# Altium footprint library Package_LCC.PcbLib: 25 footprints (part 2 of 2)
Each footprint in its own frame and in the unit in brackets; x right, y up, seen from the top. Pads: shape width x height; smd on the part's side, far side on the other; paste and mask are expansions set on the pad; w line width, h text height; cw(c..) or ccw(c..) is an arc to the next point about the centre after c.
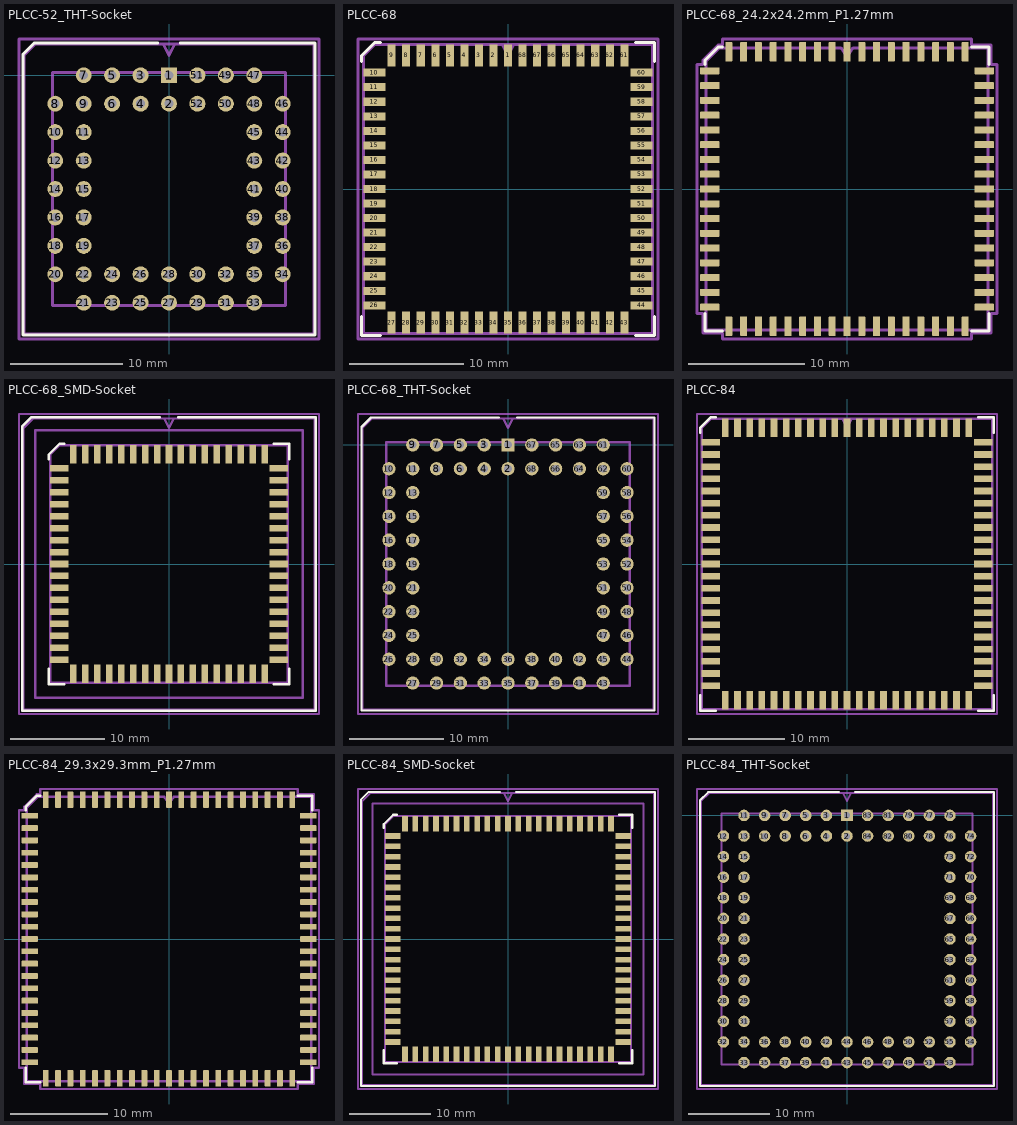
[diagram p1: the footprints below, top view; thin cyan lines are the x and y axes]

## PLCC-52_THT-Socket [mil]
pads (52):
  rect 56x56 hole 31.5: 1(0,0)
  round 56 hole 31.5: 2(0,-100) 3(-100,0) 4(-100,-100) 5(-200,0) 6(-200,-100) 7(-300,0) 8(-400,-100) 9(-300,-100) 10(-400,-200) 11(-300,-200) 12(-400,-300) 13(-300,-300) 14(-400,-400) 15(-300,-400) 16(-400,-500) 17(-300,-500) 18(-400,-600) 19(-300,-600) 20(-400,-700) 21(-300,-800) 22(-300,-700) 23(-200,-800) 24(-200,-700) 25(-100,-800) 26(-100,-700) 27(0,-800) 28(0,-700) 29(100,-800) 30(100,-700) 31(200,-800) 32(200,-700) 33(300,-800) 34(400,-700) 35(300,-700) 36(400,-600) 37(300,-600) 38(400,-500) 39(300,-500) 40(400,-400) 41(300,-400) 42(400,-300) 43(300,-300) 44(400,-200) 45(300,-200) 46(400,-100) 47(300,0) 48(300,-100) 49(200,0) 50(200,-100) 51(100,0) 52(100,-100)
F.SilkS:
  lines w10: -39.37,113.39 -474.02,113.39 -513.39,74.02 -513.39,-913.39 513.39,-913.39 513.39,113.39 39.37,113.39
Top Assembly:
  lines w10: -19.68,109.45 0,70.08 19.68,109.45 ; -509.45,-909.45 509.45,-909.45 509.45,109.45 -470.08,109.45 -509.45,70.08 -509.45,-909.45 ; -409.45,-809.45 409.45,-809.45 409.45,9.45 -409.45,9.45 -409.45,-809.45
  text "'.Designator'" at -159.32,-433.08 h39.37
Top Courtyard:
  lines w10: -527.56,-927.56 527.56,-927.56 527.56,127.56 -527.56,127.56 -527.56,-927.56
Top Designator:
  text ".Designator" at -299.9,-419.99 h60

## PLCC-68 [mm]
pads (68):
  rect 0.7x1.925 smd: 1(0,11.672) 2(-1.27,11.672) 3(-2.54,11.672) 4(-3.81,11.672) 5(-5.08,11.672) 6(-6.35,11.672) 7(-7.62,11.672) 8(-8.89,11.672) 9(-10.16,11.672) 27(-10.16,-11.672) 28(-8.89,-11.672) 29(-7.62,-11.672) 30(-6.35,-11.672) 31(-5.08,-11.672) 32(-3.81,-11.672) 33(-2.54,-11.672) 34(-1.27,-11.672) 35(0,-11.672) 36(1.27,-11.672) 37(2.54,-11.672) 38(3.81,-11.672) 39(5.08,-11.672) 40(6.35,-11.672) 41(7.62,-11.672) 42(8.89,-11.672) 43(10.16,-11.672) 61(10.16,11.672) 62(8.89,11.672) 63(7.62,11.672) 64(6.35,11.672) 65(5.08,11.672) 66(3.81,11.672) 67(2.54,11.672) 68(1.27,11.672)
  rect 1.925x0.7 smd: 10(-11.672,10.16) 11(-11.672,8.89) 12(-11.672,7.62) 13(-11.672,6.35) 14(-11.672,5.08) 15(-11.672,3.81) 16(-11.672,2.54) 17(-11.672,1.27) 18(-11.672,0) 19(-11.672,-1.27) 20(-11.672,-2.54) 21(-11.672,-3.81) 22(-11.672,-5.08) 23(-11.672,-6.35) 24(-11.672,-7.62) 25(-11.672,-8.89) 26(-11.672,-10.16) 44(11.672,-10.16) 45(11.672,-8.89) 46(11.672,-7.62) 47(11.672,-6.35) 48(11.672,-5.08) 49(11.672,-3.81) 50(11.672,-2.54) 51(11.672,-1.27) 52(11.672,0) 53(11.672,1.27) 54(11.672,2.54) 55(11.672,3.81) 56(11.672,5.08) 57(11.672,6.35) 58(11.672,7.62) 59(11.672,8.89) 60(11.672,10.16)
F.SilkS:
  lines w0.254: -12.785,-11.135 -12.785,-12.785 -11.135,-12.785 ; -12.785,11.135 -12.785,11.635 -11.635,12.785 -11.135,12.785 ; 11.135,-12.785 12.785,-12.785 12.785,-11.135 ; 11.135,12.785 12.785,12.785 12.785,11.135
Top Assembly:
  lines w0.254: -0.5,12.635 0,11.635 0.5,12.635 ; -12.635,-12.635 12.635,-12.635 12.635,12.635 -11.635,12.635 -12.635,11.635 -12.635,-12.635
  text "'.Designator'" at -4.047,-0.84 h1
Top Courtyard:
  lines w0.254: -13.1,-13.1 13.1,-13.1 13.1,13.1 -13.1,13.1 -13.1,-13.1
Top Designator:
  text ".Designator" at -7.618,-0.508 h1.52

## PLCC-68_24.2x24.2mm_P1.27mm [mm]
pads (68):
  rrect25% 0.6x1.7 smd: 1(0,11.8) 2(-1.27,11.8) 3(-2.54,11.8) 4(-3.81,11.8) 5(-5.08,11.8) 6(-6.35,11.8) 7(-7.62,11.8) 8(-8.89,11.8) 9(-10.16,11.8) 27(-10.16,-11.8) 28(-8.89,-11.8) 29(-7.62,-11.8) 30(-6.35,-11.8) 31(-5.08,-11.8) 32(-3.81,-11.8) 33(-2.54,-11.8) 34(-1.27,-11.8) 35(0,-11.8) 36(1.27,-11.8) 37(2.54,-11.8) 38(3.81,-11.8) 39(5.08,-11.8) 40(6.35,-11.8) 41(7.62,-11.8) 42(8.89,-11.8) 43(10.16,-11.8) 61(10.16,11.8) 62(8.89,11.8) 63(7.62,11.8) 64(6.35,11.8) 65(5.08,11.8) 66(3.81,11.8) 67(2.54,11.8) 68(1.27,11.8)
  rrect25% 1.7x0.6 smd: 10(-11.8,10.16) 11(-11.8,8.89) 12(-11.8,7.62) 13(-11.8,6.35) 14(-11.8,5.08) 15(-11.8,3.81) 16(-11.8,2.54) 17(-11.8,1.27) 18(-11.8,0) 19(-11.8,-1.27) 20(-11.8,-2.54) 21(-11.8,-3.81) 22(-11.8,-5.08) 23(-11.8,-6.35) 24(-11.8,-7.62) 25(-11.8,-8.89) 26(-11.8,-10.16) 44(11.8,-10.16) 45(11.8,-8.89) 46(11.8,-7.62) 47(11.8,-6.35) 48(11.8,-5.08) 49(11.8,-3.81) 50(11.8,-2.54) 51(11.8,-1.27) 52(11.8,0) 53(11.8,1.27) 54(11.8,2.54) 55(11.8,3.81) 56(11.8,5.08) 57(11.8,6.35) 58(11.8,7.62) 59(11.8,8.89) 60(11.8,10.16)
F.SilkS:
  lines w0.254: -12.226,-10.72 -12.226,-12.226 -10.72,-12.226 ; -12.226,10.72 -12.226,11.051 -11.051,12.226 -10.72,12.226 ; 10.72,-12.226 12.226,-12.226 12.226,-10.72 ; 10.72,12.226 12.226,12.226 12.226,10.72
Top Assembly:
  lines w0.254: -12.116,-12.116 12.116,-12.116 12.116,12.116 0.5,12.116 0,11.409 -0.5,12.116 -10.973,12.116 -12.116,10.973 -12.116,-12.116
  text "'.Designator'" at -4.047,-0.84 h1
Top Courtyard:
  lines w0.254: -12.9,-10.71 -12.37,-10.71 -12.37,-12.37 -10.71,-12.37 -10.71,-12.9 0,-12.9 10.71,-12.9 10.71,-12.37 12.37,-12.37 12.37,-10.71 12.9,-10.71 12.9,0 12.9,10.71 12.37,10.71 12.37,12.37 10.71,12.37 10.71,12.9 0,12.9 -10.71,12.9 -10.71,12.37 -11.08,12.37 -12.37,11.08 -12.37,10.71 -12.9,10.71 -12.9,0 -12.9,-10.71
Top Designator:
  text ".Designator" at -7.618,-0.508 h1.52

## PLCC-68_SMD-Socket [mm]
pads (68):
  rect 0.7x1.925 smd: 1(0,11.672) 2(-1.27,11.672) 3(-2.54,11.672) 4(-3.81,11.672) 5(-5.08,11.672) 6(-6.35,11.672) 7(-7.62,11.672) 8(-8.89,11.672) 9(-10.16,11.672) 27(-10.16,-11.672) 28(-8.89,-11.672) 29(-7.62,-11.672) 30(-6.35,-11.672) 31(-5.08,-11.672) 32(-3.81,-11.672) 33(-2.54,-11.672) 34(-1.27,-11.672) 35(0,-11.672) 36(1.27,-11.672) 37(2.54,-11.672) 38(3.81,-11.672) 39(5.08,-11.672) 40(6.35,-11.672) 41(7.62,-11.672) 42(8.89,-11.672) 43(10.16,-11.672) 61(10.16,11.672) 62(8.89,11.672) 63(7.62,11.672) 64(6.35,11.672) 65(5.08,11.672) 66(3.81,11.672) 67(2.54,11.672) 68(1.27,11.672)
  rect 1.925x0.7 smd: 10(-11.672,10.16) 11(-11.672,8.89) 12(-11.672,7.62) 13(-11.672,6.35) 14(-11.672,5.08) 15(-11.672,3.81) 16(-11.672,2.54) 17(-11.672,1.27) 18(-11.672,0) 19(-11.672,-1.27) 20(-11.672,-2.54) 21(-11.672,-3.81) 22(-11.672,-5.08) 23(-11.672,-6.35) 24(-11.672,-7.62) 25(-11.672,-8.89) 26(-11.672,-10.16) 44(11.672,-10.16) 45(11.672,-8.89) 46(11.672,-7.62) 47(11.672,-6.35) 48(11.672,-5.08) 49(11.672,-3.81) 50(11.672,-2.54) 51(11.672,-1.27) 52(11.672,0) 53(11.672,1.27) 54(11.672,2.54) 55(11.672,3.81) 56(11.672,5.08) 57(11.672,6.35) 58(11.672,7.62) 59(11.672,8.89) 60(11.672,10.16)
F.SilkS:
  lines w0.254: -12.785,-11.135 -12.785,-12.785 -11.135,-12.785 ; -12.785,11.135 -12.785,11.635 -11.635,12.785 -11.135,12.785 ; -1,15.625 -14.625,15.625 -15.625,14.625 -15.625,-15.625 15.625,-15.625 15.625,15.625 1,15.625 ; 11.135,-12.785 12.785,-12.785 12.785,-11.135 ; 11.135,12.785 12.785,12.785 12.785,11.135
Top Assembly:
  lines w0.254: -0.5,15.475 0,14.475 0.5,15.475 ; -15.475,-15.475 15.475,-15.475 15.475,15.475 -14.475,15.475 -15.475,14.475 -15.475,-15.475 ; -14.205,-14.205 14.205,-14.205 14.205,14.205 -14.205,14.205 -14.205,-14.205 ; -12.635,-12.635 12.635,-12.635 12.635,12.635 -11.635,12.635 -12.635,11.635 -12.635,-12.635
  text "'.Designator'" at -4.047,-0.84 h1
Top Courtyard:
  lines w0.254: -15.95,-15.95 15.95,-15.95 15.95,15.95 -15.95,15.95 -15.95,-15.95
Top Designator:
  text ".Designator" at -7.618,-0.508 h1.52

## PLCC-68_THT-Socket [mil]
pads (68):
  rect 56x56 hole 31.5: 1(0,0)
  round 56 hole 31.5: 2(0,-100) 3(-100,0) 4(-100,-100) 5(-200,0) 6(-200,-100) 7(-300,0) 8(-300,-100) 9(-400,0) 10(-500,-100) 11(-400,-100) 12(-500,-200) 13(-400,-200) 14(-500,-300) 15(-400,-300) 16(-500,-400) 17(-400,-400) 18(-500,-500) 19(-400,-500) 20(-500,-600) 21(-400,-600) 22(-500,-700) 23(-400,-700) 24(-500,-800) 25(-400,-800) 26(-500,-900) 27(-400,-1000) 28(-400,-900) 29(-300,-1000) 30(-300,-900) 31(-200,-1000) 32(-200,-900) 33(-100,-1000) 34(-100,-900) 35(0,-1000) 36(0,-900) 37(100,-1000) 38(100,-900) 39(200,-1000) 40(200,-900) 41(300,-1000) 42(300,-900) 43(400,-1000) 44(500,-900) 45(400,-900) 46(500,-800) 47(400,-800) 48(500,-700) 49(400,-700) 50(500,-600) 51(400,-600) 52(500,-500) 53(400,-500) 54(500,-400) 55(400,-400) 56(500,-300) 57(400,-300) 58(500,-200) 59(400,-200) 60(500,-100) 61(400,0) 62(400,-100) 63(300,0) 64(300,-100) 65(200,0) 66(200,-100) 67(100,0) 68(100,-100)
F.SilkS:
  lines w10: -39.37,115.16 -575.79,115.16 -615.16,75.79 -615.16,-1115.16 615.16,-1115.16 615.16,115.16 39.37,115.16
Top Assembly:
  lines w10: -19.68,111.22 0,71.85 19.68,111.22 ; -611.22,-1111.22 611.22,-1111.22 611.22,111.22 -571.85,111.22 -611.22,71.85 -611.22,-1111.22 ; -511.22,-1011.22 511.22,-1011.22 511.22,11.22 -511.22,11.22 -511.22,-1011.22
  text "'.Designator'" at -159.32,-533.08 h39.37
Top Courtyard:
  lines w10: -629.92,-1129.92 629.92,-1129.92 629.92,129.92 -629.92,129.92 -629.92,-1129.92
Top Designator:
  text ".Designator" at -299.9,-519.99 h60

## PLCC-84 [mm]
pads (84):
  rect 0.7x1.925 smd: 1(0,14.212) 2(-1.27,14.212) 3(-2.54,14.212) 4(-3.81,14.212) 5(-5.08,14.212) 6(-6.35,14.212) 7(-7.62,14.212) 8(-8.89,14.212) 9(-10.16,14.212) 10(-11.43,14.212) 11(-12.7,14.212) 33(-12.7,-14.212) 34(-11.43,-14.212) 35(-10.16,-14.212) 36(-8.89,-14.212) 37(-7.62,-14.212) 38(-6.35,-14.212) 39(-5.08,-14.212) 40(-3.81,-14.212) 41(-2.54,-14.212) 42(-1.27,-14.212) 43(0,-14.212) 44(1.27,-14.212) 45(2.54,-14.212) 46(3.81,-14.212) 47(5.08,-14.212) 48(6.35,-14.212) 49(7.62,-14.212) 50(8.89,-14.212) 51(10.16,-14.212) 52(11.43,-14.212) 53(12.7,-14.212) 75(12.7,14.212) 76(11.43,14.212) 77(10.16,14.212) 78(8.89,14.212) 79(7.62,14.212) 80(6.35,14.212) 81(5.08,14.212) 82(3.81,14.212) 83(2.54,14.212) 84(1.27,14.212)
  rect 1.925x0.7 smd: 12(-14.212,12.7) 13(-14.212,11.43) 14(-14.212,10.16) 15(-14.212,8.89) 16(-14.212,7.62) 17(-14.212,6.35) 18(-14.212,5.08) 19(-14.212,3.81) 20(-14.212,2.54) 21(-14.212,1.27) 22(-14.212,0) 23(-14.212,-1.27) 24(-14.212,-2.54) 25(-14.212,-3.81) 26(-14.212,-5.08) 27(-14.212,-6.35) 28(-14.212,-7.62) 29(-14.212,-8.89) 30(-14.212,-10.16) 31(-14.212,-11.43) 32(-14.212,-12.7) 54(14.212,-12.7) 55(14.212,-11.43) 56(14.212,-10.16) 57(14.212,-8.89) 58(14.212,-7.62) 59(14.212,-6.35) 60(14.212,-5.08) 61(14.212,-3.81) 62(14.212,-2.54) 63(14.212,-1.27) 64(14.212,0) 65(14.212,1.27) 66(14.212,2.54) 67(14.212,3.81) 68(14.212,5.08) 69(14.212,6.35) 70(14.212,7.62) 71(14.212,8.89) 72(14.212,10.16) 73(14.212,11.43) 74(14.212,12.7)
F.SilkS:
  lines w0.254: -15.325,-13.675 -15.325,-15.325 -13.675,-15.325 ; -15.325,13.675 -15.325,14.175 -14.175,15.325 -13.675,15.325 ; 13.675,-15.325 15.325,-15.325 15.325,-13.675 ; 13.675,15.325 15.325,15.325 15.325,13.675
Top Assembly:
  lines w0.254: -0.5,15.175 0,14.175 0.5,15.175 ; -15.175,-15.175 15.175,-15.175 15.175,15.175 -14.175,15.175 -15.175,14.175 -15.175,-15.175
  text "'.Designator'" at -4.047,-0.84 h1
Top Courtyard:
  lines w0.254: -15.65,-15.65 15.65,-15.65 15.65,15.65 -15.65,15.65 -15.65,-15.65
Top Designator:
  text ".Designator" at -7.618,-0.508 h1.52

## PLCC-84_29.3x29.3mm_P1.27mm [mm]
pads (84):
  rrect25% 0.6x1.7 smd: 1(0,14.35) 2(-1.27,14.35) 3(-2.54,14.35) 4(-3.81,14.35) 5(-5.08,14.35) 6(-6.35,14.35) 7(-7.62,14.35) 8(-8.89,14.35) 9(-10.16,14.35) 10(-11.43,14.35) 11(-12.7,14.35) 33(-12.7,-14.35) 34(-11.43,-14.35) 35(-10.16,-14.35) 36(-8.89,-14.35) 37(-7.62,-14.35) 38(-6.35,-14.35) 39(-5.08,-14.35) 40(-3.81,-14.35) 41(-2.54,-14.35) 42(-1.27,-14.35) 43(0,-14.35) 44(1.27,-14.35) 45(2.54,-14.35) 46(3.81,-14.35) 47(5.08,-14.35) 48(6.35,-14.35) 49(7.62,-14.35) 50(8.89,-14.35) 51(10.16,-14.35) 52(11.43,-14.35) 53(12.7,-14.35) 75(12.7,14.35) 76(11.43,14.35) 77(10.16,14.35) 78(8.89,14.35) 79(7.62,14.35) 80(6.35,14.35) 81(5.08,14.35) 82(3.81,14.35) 83(2.54,14.35) 84(1.27,14.35)
  rrect25% 1.7x0.6 smd: 12(-14.35,12.7) 13(-14.35,11.43) 14(-14.35,10.16) 15(-14.35,8.89) 16(-14.35,7.62) 17(-14.35,6.35) 18(-14.35,5.08) 19(-14.35,3.81) 20(-14.35,2.54) 21(-14.35,1.27) 22(-14.35,0) 23(-14.35,-1.27) 24(-14.35,-2.54) 25(-14.35,-3.81) 26(-14.35,-5.08) 27(-14.35,-6.35) 28(-14.35,-7.62) 29(-14.35,-8.89) 30(-14.35,-10.16) 31(-14.35,-11.43) 32(-14.35,-12.7) 54(14.35,-12.7) 55(14.35,-11.43) 56(14.35,-10.16) 57(14.35,-8.89) 58(14.35,-7.62) 59(14.35,-6.35) 60(14.35,-5.08) 61(14.35,-3.81) 62(14.35,-2.54) 63(14.35,-1.27) 64(14.35,0) 65(14.35,1.27) 66(14.35,2.54) 67(14.35,3.81) 68(14.35,5.08) 69(14.35,6.35) 70(14.35,7.62) 71(14.35,8.89) 72(14.35,10.16) 73(14.35,11.43) 74(14.35,12.7)
F.SilkS:
  lines w0.254: -14.766,-13.26 -14.766,-14.766 -13.26,-14.766 ; -14.766,13.26 -14.766,13.591 -13.591,14.766 -13.26,14.766 ; 13.26,-14.766 14.766,-14.766 14.766,-13.26 ; 13.26,14.766 14.766,14.766 14.766,13.26
Top Assembly:
  lines w0.254: -14.656,-14.656 14.656,-14.656 14.656,14.656 0.5,14.656 0,13.949 -0.5,14.656 -13.513,14.656 -14.656,13.513 -14.656,-14.656
  text "'.Designator'" at -4.047,-0.84 h1
Top Courtyard:
  lines w0.254: -15.45,-13.25 -14.91,-13.25 -14.91,-14.91 -13.25,-14.91 -13.25,-15.45 0,-15.45 13.25,-15.45 13.25,-14.91 14.91,-14.91 14.91,-13.25 15.45,-13.25 15.45,0 15.45,13.25 14.91,13.25 14.91,14.91 13.25,14.91 13.25,15.45 0,15.45 -13.25,15.45 -13.25,14.91 -13.62,14.91 -14.91,13.62 -14.91,13.25 -15.45,13.25 -15.45,0 -15.45,-13.25
Top Designator:
  text ".Designator" at -7.618,-0.508 h1.52

## PLCC-84_SMD-Socket [mm]
pads (84):
  rect 0.7x1.925 smd: 1(0,14.212) 2(-1.27,14.212) 3(-2.54,14.212) 4(-3.81,14.212) 5(-5.08,14.212) 6(-6.35,14.212) 7(-7.62,14.212) 8(-8.89,14.212) 9(-10.16,14.212) 10(-11.43,14.212) 11(-12.7,14.212) 33(-12.7,-14.212) 34(-11.43,-14.212) 35(-10.16,-14.212) 36(-8.89,-14.212) 37(-7.62,-14.212) 38(-6.35,-14.212) 39(-5.08,-14.212) 40(-3.81,-14.212) 41(-2.54,-14.212) 42(-1.27,-14.212) 43(0,-14.212) 44(1.27,-14.212) 45(2.54,-14.212) 46(3.81,-14.212) 47(5.08,-14.212) 48(6.35,-14.212) 49(7.62,-14.212) 50(8.89,-14.212) 51(10.16,-14.212) 52(11.43,-14.212) 53(12.7,-14.212) 75(12.7,14.212) 76(11.43,14.212) 77(10.16,14.212) 78(8.89,14.212) 79(7.62,14.212) 80(6.35,14.212) 81(5.08,14.212) 82(3.81,14.212) 83(2.54,14.212) 84(1.27,14.212)
  rect 1.925x0.7 smd: 12(-14.212,12.7) 13(-14.212,11.43) 14(-14.212,10.16) 15(-14.212,8.89) 16(-14.212,7.62) 17(-14.212,6.35) 18(-14.212,5.08) 19(-14.212,3.81) 20(-14.212,2.54) 21(-14.212,1.27) 22(-14.212,0) 23(-14.212,-1.27) 24(-14.212,-2.54) 25(-14.212,-3.81) 26(-14.212,-5.08) 27(-14.212,-6.35) 28(-14.212,-7.62) 29(-14.212,-8.89) 30(-14.212,-10.16) 31(-14.212,-11.43) 32(-14.212,-12.7) 54(14.212,-12.7) 55(14.212,-11.43) 56(14.212,-10.16) 57(14.212,-8.89) 58(14.212,-7.62) 59(14.212,-6.35) 60(14.212,-5.08) 61(14.212,-3.81) 62(14.212,-2.54) 63(14.212,-1.27) 64(14.212,0) 65(14.212,1.27) 66(14.212,2.54) 67(14.212,3.81) 68(14.212,5.08) 69(14.212,6.35) 70(14.212,7.62) 71(14.212,8.89) 72(14.212,10.16) 73(14.212,11.43) 74(14.212,12.7)
F.SilkS:
  lines w0.254: -15.325,-13.675 -15.325,-15.325 -13.675,-15.325 ; -15.325,13.675 -15.325,14.175 -14.175,15.325 -13.675,15.325 ; -1,18.15 -17.15,18.15 -18.15,17.15 -18.15,-18.15 18.15,-18.15 18.15,18.15 1,18.15 ; 13.675,-15.325 15.325,-15.325 15.325,-13.675 ; 13.675,15.325 15.325,15.325 15.325,13.675
Top Assembly:
  lines w0.254: -0.5,18 0,17 0.5,18 ; -18,-18 18,-18 18,18 -17,18 -18,17 -18,-18 ; -16.73,-16.73 16.73,-16.73 16.73,16.73 -16.73,16.73 -16.73,-16.73 ; -15.175,-15.175 15.175,-15.175 15.175,15.175 -14.175,15.175 -15.175,14.175 -15.175,-15.175
  text "'.Designator'" at -4.047,-0.84 h1
Top Courtyard:
  lines w0.254: -18.5,-18.5 18.5,-18.5 18.5,18.5 -18.5,18.5 -18.5,-18.5
Top Designator:
  text ".Designator" at -7.618,-0.508 h1.52

## PLCC-84_THT-Socket [mil]
pads (84):
  rect 56x56 hole 31.5: 1(0,0)
  round 56 hole 31.5: 2(0,-100) 3(-100,0) 4(-100,-100) 5(-200,0) 6(-200,-100) 7(-300,0) 8(-300,-100) 9(-400,0) 10(-400,-100) 11(-500,0) 12(-600,-100) 13(-500,-100) 14(-600,-200) 15(-500,-200) 16(-600,-300) 17(-500,-300) 18(-600,-400) 19(-500,-400) 20(-600,-500) 21(-500,-500) 22(-600,-600) 23(-500,-600) 24(-600,-700) 25(-500,-700) 26(-600,-800) 27(-500,-800) 28(-600,-900) 29(-500,-900) 30(-600,-1000) 31(-500,-1000) 32(-600,-1100) 33(-500,-1200) 34(-500,-1100) 35(-400,-1200) 36(-400,-1100) 37(-300,-1200) 38(-300,-1100) 39(-200,-1200) 40(-200,-1100) 41(-100,-1200) 42(-100,-1100) 43(0,-1200) 44(0,-1100) 45(100,-1200) 46(100,-1100) 47(200,-1200) 48(200,-1100) 49(300,-1200) 50(300,-1100) 51(400,-1200) 52(400,-1100) 53(500,-1200) 54(600,-1100) 55(500,-1100) 56(600,-1000) 57(500,-1000) 58(600,-900) 59(500,-900) 60(600,-800) 61(500,-800) 62(600,-700) 63(500,-700) 64(600,-600) 65(500,-600) 66(600,-500) 67(500,-500) 68(600,-400) 69(500,-400) 70(600,-300) 71(500,-300) 72(600,-200) 73(500,-200) 74(600,-100) 75(500,0) 76(500,-100) 77(400,0) 78(400,-100) 79(300,0) 80(300,-100) 81(200,0) 82(200,-100) 83(100,0) 84(100,-100)
F.SilkS:
  lines w10: -39.37,112.99 -674.21,112.99 -713.58,73.62 -713.58,-1312.99 713.58,-1312.99 713.58,112.99 39.37,112.99
Top Assembly:
  lines w10: -19.68,109.06 0,69.69 19.68,109.06 ; -709.65,-1309.06 709.65,-1309.06 709.65,109.06 -670.28,109.06 -709.65,69.69 -709.65,-1309.06 ; -609.65,-1209.06 609.65,-1209.06 609.65,9.06 -609.65,9.06 -609.65,-1209.06
  text "'.Designator'" at -159.32,-633.08 h39.37
Top Courtyard:
  lines w10: -728.35,-1328.35 728.35,-1328.35 728.35,128.35 -728.35,128.35 -728.35,-1328.35
Top Designator:
  text ".Designator" at -299.9,-619.99 h60